# Altium schematic symbol library TSW-104-08-T-S-RA.SchLib: 1 symbol
Pins are listed as number, name and electrical type; pins without a type are passive.

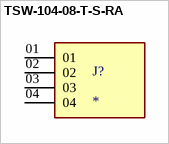
[diagram p0: symbol TSW-104-08-T-S-RA]

## TSW-104-08-T-S-RA
designator J?
MF: Samtec; MP: TSW-104-08-T-S-RA; Availability: Unavailable; Price: None; Package: None; Value: *
footprint SAMTEC_TSW-104-08-T-S-RA
pins: 01, 02, 03, 04